# EAGLE library part LM3914 (library Bargraph Treiber -  LM3914)
Name des Bauteiles:LM3914 Daten:Display Treiber, !0 LED´s ansteuerbar, z.B- VU Meter! Artikelnummer:www.reichelt.de = LM 3914 V Datenblatt:http://www.ti.com/general/docs/lit/getliterature.tsp?genericPartNumber=lm3914&reg=en&fileType=pdf
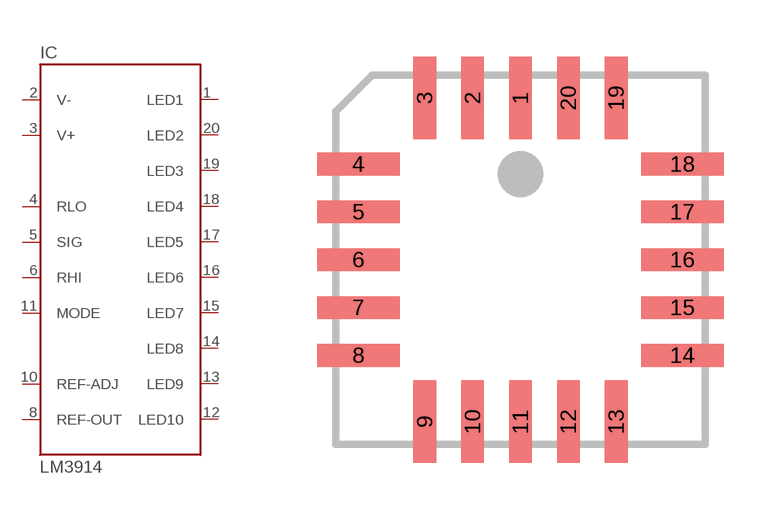
[diagram p0: symbol with the pads of PLCC-20; footprint PLCC-20]

Designator prefix IC

## LM3914SMD  [PLCC-20]
1  LED1
2  V-
3  V+
4  RLO
5  SIG
6  RHI
8  REF-OUT
10  REF-ADJ
11  MODE
12  LED10
13  LED9
14  LED8
15  LED7
16  LED6
17  LED5
18  LED4
19  LED3
20  LED2

## Footprint PLCC-20 (pad centres in mm)
smd 0.6 x 2.2: 1 0,4.3; 2 -1.27,4.3; 3 -2.54,4.3; 9 -2.54,-4.3; 10 -1.27,-4.3; 11 0,-4.3; 12 1.27,-4.3; 13 2.54,-4.3; 19 2.54,4.3; 20 1.27,4.3
smd 2.2 x 0.6: 4 -4.3,2.54; 5 -4.3,1.27; 6 -4.3,0; 7 -4.3,-1.27; 8 -4.3,-2.54; 14 4.3,-2.54; 15 4.3,-1.27; 16 4.3,0; 17 4.3,1.27; 18 4.3,2.54